# EAGLE library part PIC24FJ128GB206-I/PT-BOARD (library 180118 Library by matsu)
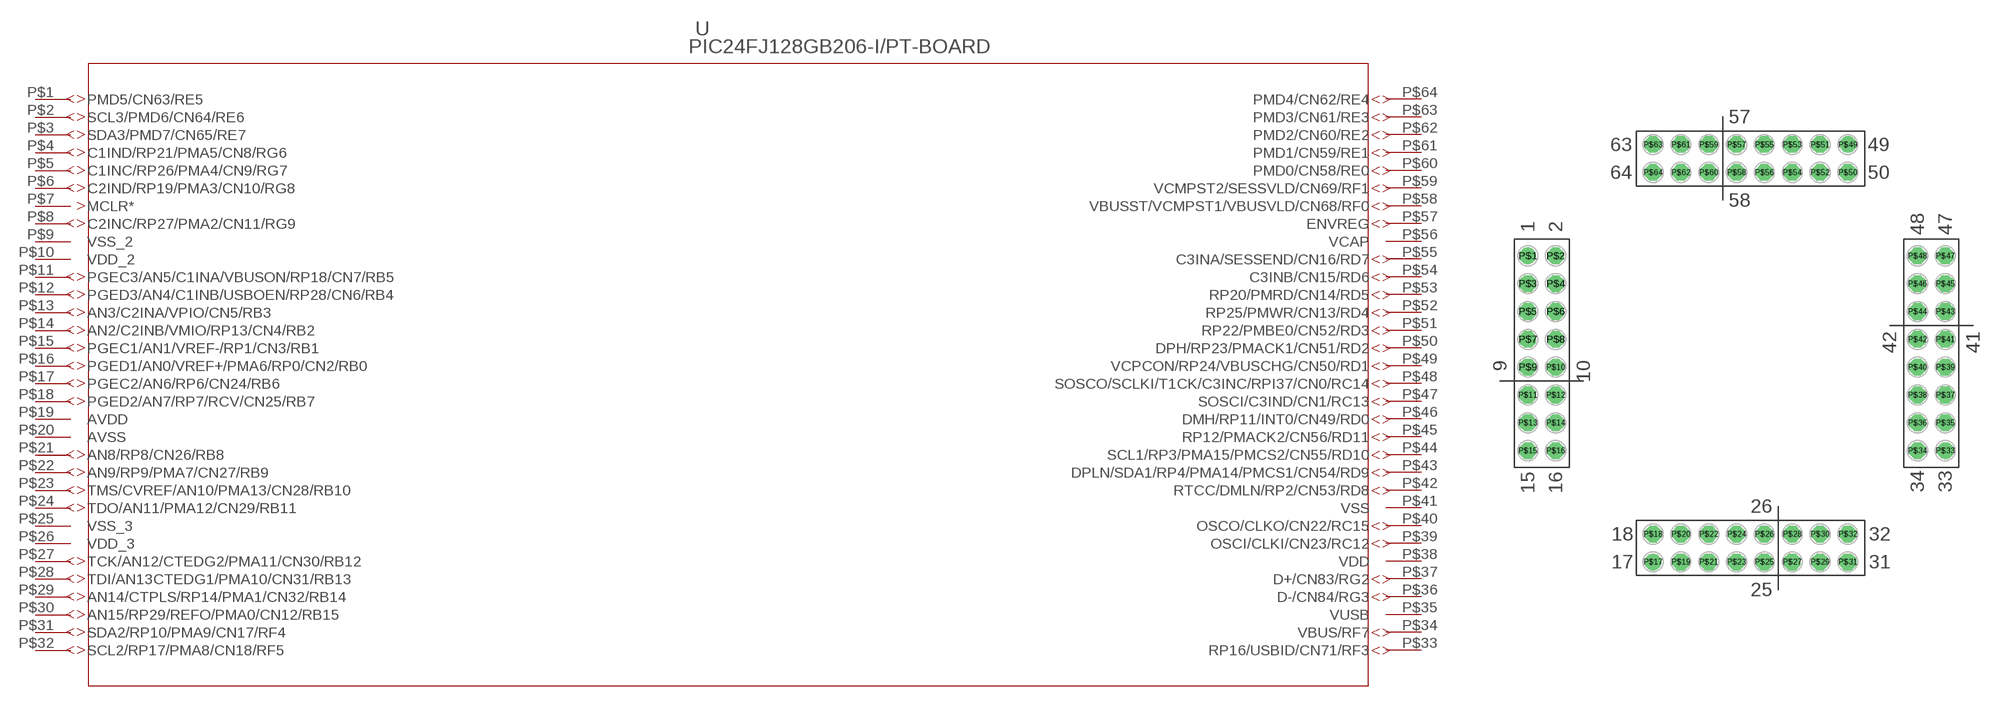
[diagram p31: symbol with the pads of PIC24FJ128GB206-I/PT-BOARD; footprint PIC24FJ128GB206-I/PT-BOARD]

Designator prefix -

## PIC24FJ128GB206-I/PT-BOARD  [PIC24FJ128GB206-I/PT-BOARD]
P$1  PMD5/CN63/RE5
P$2  SCL3/PMD6/CN64/RE6
P$3  SDA3/PMD7/CN65/RE7
P$4  C1IND/RP21/PMA5/CN8/RG6
P$5  C1INC/RP26/PMA4/CN9/RG7
P$6  C2IND/RP19/PMA3/CN10/RG8
P$7  MCLR*  in
P$8  C2INC/RP27/PMA2/CN11/RG9
P$9  VSS_2  pwr
P$10  VDD_2  pwr
P$11  PGEC3/AN5/C1INA/VBUSON/RP18/CN7/RB5
P$12  PGED3/AN4/C1INB/USBOEN/RP28/CN6/RB4
P$13  AN3/C2INA/VPIO/CN5/RB3
P$14  AN2/C2INB/VMIO/RP13/CN4/RB2
P$15  PGEC1/AN1/VREF-/RP1/CN3/RB1
P$16  PGED1/AN0/VREF+/PMA6/RP0/CN2/RB0
P$17  PGEC2/AN6/RP6/CN24/RB6
P$18  PGED2/AN7/RP7/RCV/CN25/RB7
P$19  AVDD  pwr
P$20  AVSS  pwr
P$21  AN8/RP8/CN26/RB8
P$22  AN9/RP9/PMA7/CN27/RB9
P$23  TMS/CVREF/AN10/PMA13/CN28/RB10
P$24  TDO/AN11/PMA12/CN29/RB11
P$25  VSS_3  pwr
P$26  VDD_3  pwr
P$27  TCK/AN12/CTEDG2/PMA11/CN30/RB12
P$28  TDI/AN13CTEDG1/PMA10/CN31/RB13
P$29  AN14/CTPLS/RP14/PMA1/CN32/RB14
P$30  AN15/RP29/REFO/PMA0/CN12/RB15
P$31  SDA2/RP10/PMA9/CN17/RF4
P$32  SCL2/RP17/PMA8/CN18/RF5
P$33  RP16/USBID/CN71/RF3
P$34  VBUS/RF7
P$35  VUSB  pwr
P$36  D-/CN84/RG3
P$37  D+/CN83/RG2
P$38  VDD  pwr
P$39  OSCI/CLKI/CN23/RC12
P$40  OSCO/CLKO/CN22/RC15
P$41  VSS  pwr
P$42  RTCC/DMLN/RP2/CN53/RD8
P$43  DPLN/SDA1/RP4/PMA14/PMCS1/CN54/RD9
P$44  SCL1/RP3/PMA15/PMCS2/CN55/RD10
P$45  RP12/PMACK2/CN56/RD11
P$46  DMH/RP11/INT0/CN49/RD0
P$47  SOSCI/C3IND/CN1/RC13
P$48  SOSCO/SCLKI/T1CK/C3INC/RPI37/CN0/RC14
P$49  VCPCON/RP24/VBUSCHG/CN50/RD1
P$50  DPH/RP23/PMACK1/CN51/RD2
P$51  RP22/PMBE0/CN52/RD3
P$52  RP25/PMWR/CN13/RD4
P$53  RP20/PMRD/CN14/RD5
P$54  C3INB/CN15/RD6
P$55  C3INA/SESSEND/CN16/RD7
P$56  VCAP  pwr
P$57  ENVREG
P$58  VBUSST/VCMPST1/VBUSVLD/CN68/RF0
P$59  VCMPST2/SESSVLD/CN69/RF1
P$60  PMD0/CN58/RE0
P$61  PMD1/CN59/RE1
P$62  PMD2/CN60/RE2
P$63  PMD3/CN61/RE3
P$64  PMD4/CN62/RE4

## Footprint PIC24FJ128GB206-I/PT-BOARD (pad centres in mm)
drill 1: P$1 -19.05,8.89; P$17 -7.62,-19.05; P$33 19.05,-8.89; P$49 10.16,19.05
drill 1 octagon: P$2 -16.51,8.89; P$3 -19.05,6.35; P$4 -16.51,6.35; P$5 -19.05,3.81; P$6 -16.51,3.81; P$7 -19.05,1.27; P$8 -16.51,1.27; P$9 -19.05,-1.27; P$10 -16.51,-1.27; P$11 -19.05,-3.81; P$12 -16.51,-3.81; P$13 -19.05,-6.35; P$14 -16.51,-6.35; P$15 -19.05,-8.89; P$16 -16.51,-8.89; P$18 -7.62,-16.51; P$19 -5.08,-19.05; P$20 -5.08,-16.51; P$21 -2.54,-19.05; P$22 -2.54,-16.51; P$23 0,-19.05; P$24 0,-16.51; P$25 2.54,-19.05; P$26 2.54,-16.51; P$27 5.08,-19.05; P$28 5.08,-16.51; P$29 7.62,-19.05; P$30 7.62,-16.51; P$31 10.16,-19.05; P$32 10.16,-16.51; P$34 16.51,-8.89; P$35 19.05,-6.35; P$36 16.51,-6.35; P$37 19.05,-3.81; P$38 16.51,-3.81; P$39 19.05,-1.27; P$40 16.51,-1.27; P$41 19.05,1.27; P$42 16.51,1.27; P$43 19.05,3.81; P$44 16.51,3.81; P$45 19.05,6.35; P$46 16.51,6.35; P$47 19.05,8.89; P$48 16.51,8.89; P$50 10.16,16.51; P$51 7.62,19.05; P$52 7.62,16.51; P$53 5.08,19.05; P$54 5.08,16.51; P$55 2.54,19.05; P$56 2.54,16.51; P$57 0,19.05; P$58 0,16.51; P$59 -2.54,19.05; P$60 -2.54,16.51; P$61 -5.08,19.05; P$62 -5.08,16.51; P$63 -7.62,19.05; P$64 -7.62,16.51